# Altium integrated library TI Power Management LDO Single Channel(400-7500mA).IntLib: 1409 symbols (part 39 of 60)
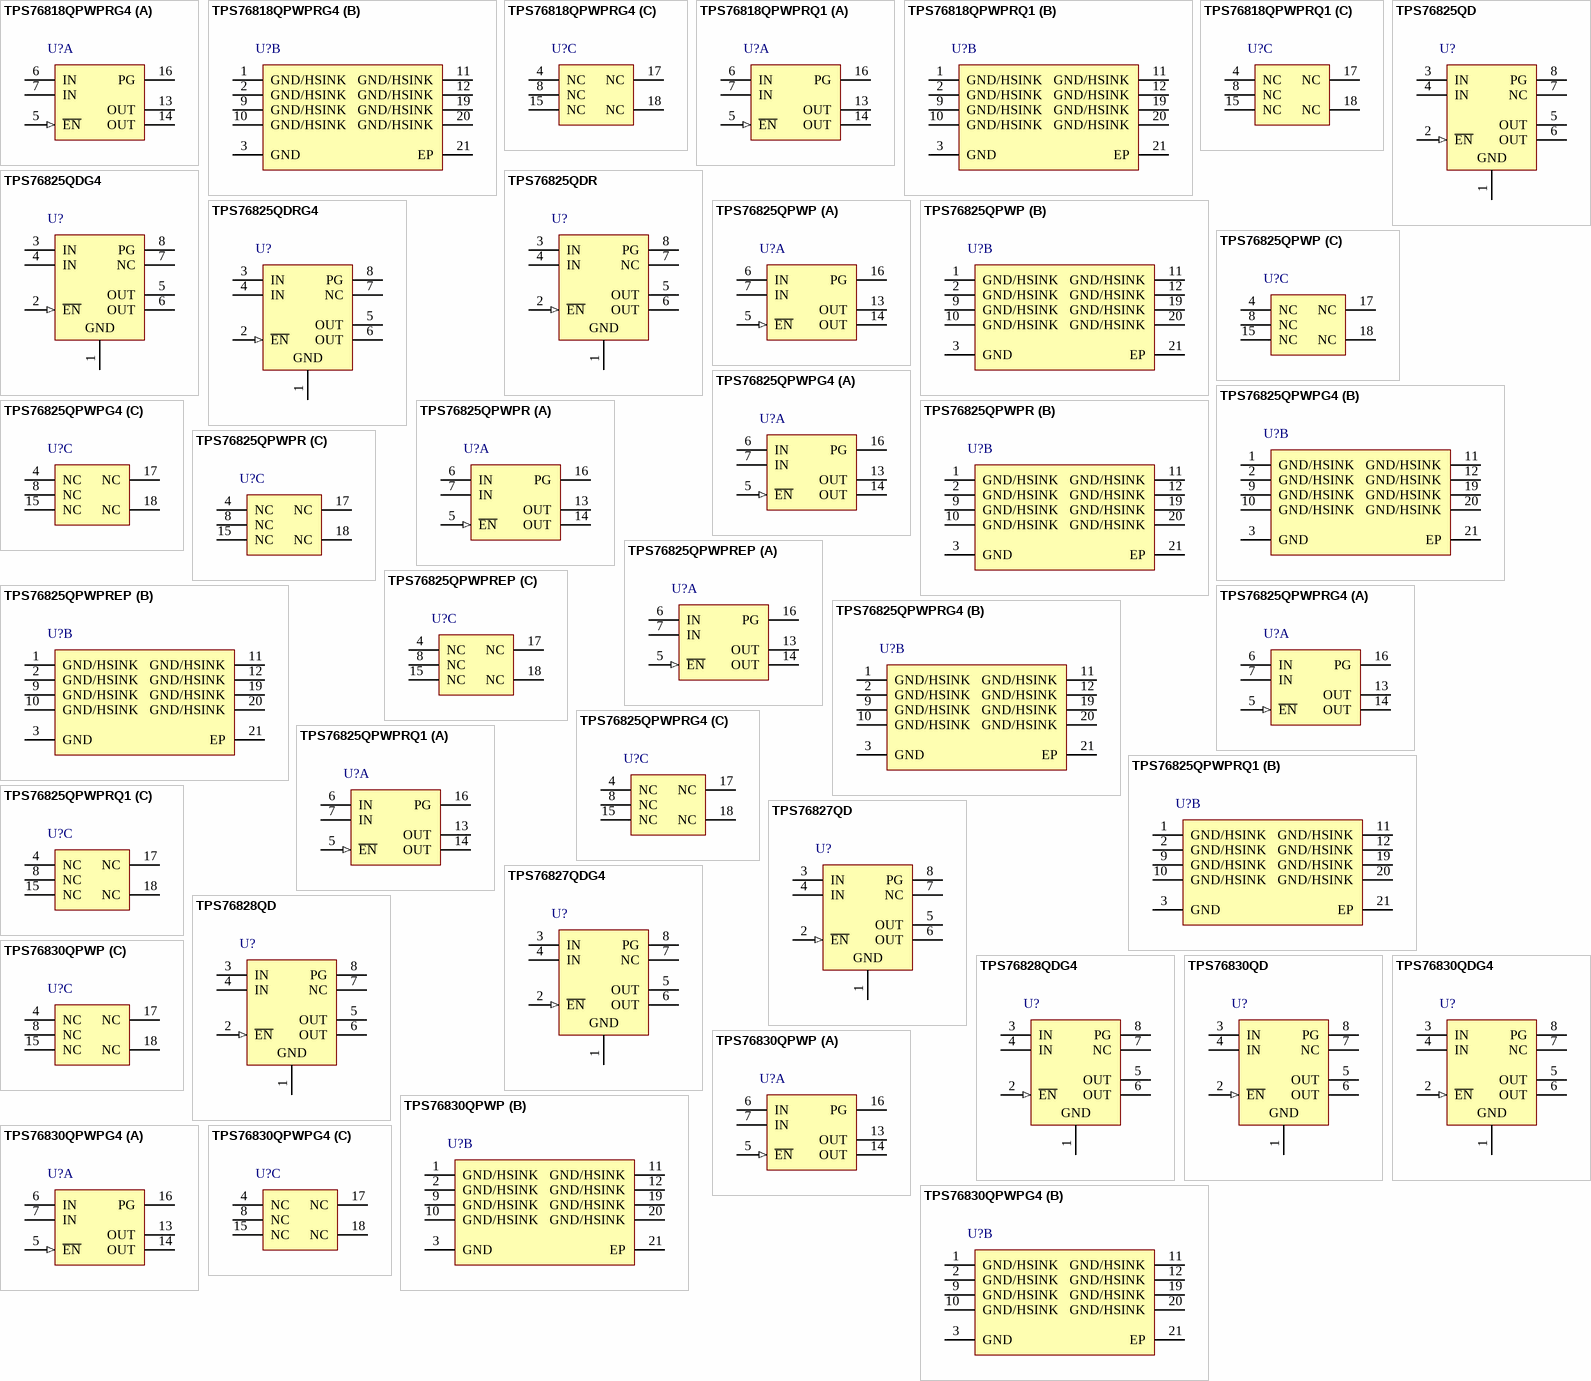
[diagram p88: symbols TPS76818QPWPRG4 to TPS76830QPWPG4]

## TPS76825QPWP
designator U?
Single Output Fast Transient Response LDO, 1 A, Fixed 2.5 V Output, 2.7 to 10 V Input, with Low IQ, 20-pin HTSSOP (PWP), -40 to 125 degC, Green (RoHS & no Sb/Br); Manufacturer: Texas Instruments; PartNumber: TPS76825QPWP; Accuracy(%): 2; Fixed Output Options(V): 2.5; Iout(Max)(A): 1; Iq(Typ)(mA): 0.08; Power Good: TRUE; SubFamily: Single Channel LDO; Vdo(Typ)(mV): 230; Vin(Max)(V): 10; Vin(Min)(V): 2.7; DatasheetVersion: SLVS211L; PackageVersion: 4073225-4/I; PackageReference: PWP20-2980X2000TP; PackageDescription: 20-Pin Plastic Small Outline, Body 4.4 x 6.5 mm, Pitch 0.65 mm; Supplier 1: Digi-Key; Supplier Part Number 1: 296-8088-5-ND; Supplier 2: Newark; Supplier Part Number 2: 77C1119; Supplier 3: Mouser; Supplier Part Number 3: 595-TPS76825QPWP; Eco-Plan: Green (RoHS & no Sb/Br); Vout Adj(Max)(V): 2.5; Vout Adj(Min)(V): 2.5; Mounting Technology: Surface Mount; Code_JEDEC: MO-153; ComponentLink1Description: Manufacturer URL; ComponentLink1URL: http://www.ti.com/; ComponentLink2Description: Datasheet; ComponentLink2URL: http://www.ti.com/general/docs/lit/getliterature.tsp?genericPartNumber=TPS76825&fileType=pdf; ComponentLink3Description: Package Specification; ComponentLink3URL: http://www.ti.com/litv/pdf/mhts001g
footprint TI-PWP20-2980X2000TP_N (SOP, 20-Leads, Body 6.5x4.4mm, Pitch 0.65mm, Thermal Pad 2.975x2 mm, IPC Medium Density)
footprint TI-PWP20-2980X2000TP_L (SOP, 20-Leads, Body 6.5x4.4mm, Pitch 0.65mm, Thermal Pad 2.975x2 mm, IPC High Density)
footprint TI-PWP20-2980X2000TP_M (SOP, 20-Leads, Body 6.5x4.4mm, Pitch 0.65mm, Thermal Pad 2.975x2 mm, IPC Low Density)
part A pins: 5 ~{EN} (in) "Enable input", 6 IN (power) "Input voltage", 7 IN (power) "Input voltage", 13 OUT (power) "Regulated output voltage", 14 OUT (power) "Regulated output voltage", 16 PG (hiz) "PG output"
part B pins: 1 GND/HSINK (power) "Ground/heatsink", 2 GND/HSINK (power) "Ground/heatsink", 3 GND (power) "Regulator ground", 9 GND/HSINK (power) "Ground/heatsink", 10 GND/HSINK (power) "Ground/heatsink", 11 GND/HSINK (power) "Ground/heatsink", 12 GND/HSINK (power) "Ground/heatsink", 19 GND/HSINK (power) "Ground/heatsink", 20 GND/HSINK (power) "Ground/heatsink", 21 EP "Exposed Thermal Pad"
part C pins: 4 NC "No connect", 8 NC "No connect", 15 NC "No connect", 17 NC "No connect", 18 NC "No connect"

## TPS76825QPWPG4
designator U?
Single Output Fast Transient Response LDO, 1 A, Fixed 2.5 V Output, 2.7 to 10 V Input, with Low IQ, 20-pin HTSSOP (PWP), -40 to 125 degC, Green (RoHS & no Sb/Br); Manufacturer: Texas Instruments; PartNumber: TPS76825QPWPG4; Accuracy(%): 2; Fixed Output Options(V): 2.5; Iout(Max)(A): 1; Iq(Typ)(mA): 0.08; Power Good: TRUE; SubFamily: Single Channel LDO; Vdo(Typ)(mV): 230; Vin(Max)(V): 10; Vin(Min)(V): 2.7; DatasheetVersion: SLVS211L; PackageVersion: 4073225-4/I; PackageReference: PWP20-2980X2000TP; PackageDescription: 20-Pin Plastic Small Outline, Body 4.4 x 6.5 mm, Pitch 0.65 mm; Supplier 1: Digi-Key; Supplier Part Number 1: TPS76825QPWPG4-ND; Supplier 2: Mouser; Supplier Part Number 2: 595-TPS76825QPWPG4; Eco-Plan: Green (RoHS & no Sb/Br); Vout Adj(Max)(V): 2.5; Vout Adj(Min)(V): 2.5; Mounting Technology: Surface Mount; Code_JEDEC: MO-153; ComponentLink1Description: Manufacturer URL; ComponentLink1URL: http://www.ti.com/; ComponentLink2Description: Datasheet; ComponentLink2URL: http://www.ti.com/general/docs/lit/getliterature.tsp?genericPartNumber=TPS76825&fileType=pdf; ComponentLink3Description: Package Specification; ComponentLink3URL: http://www.ti.com/litv/pdf/mhts001g
footprint TI-PWP20-2980X2000TP_N (SOP, 20-Leads, Body 6.5x4.4mm, Pitch 0.65mm, Thermal Pad 2.975x2 mm, IPC Medium Density)
footprint TI-PWP20-2980X2000TP_L (SOP, 20-Leads, Body 6.5x4.4mm, Pitch 0.65mm, Thermal Pad 2.975x2 mm, IPC High Density)
footprint TI-PWP20-2980X2000TP_M (SOP, 20-Leads, Body 6.5x4.4mm, Pitch 0.65mm, Thermal Pad 2.975x2 mm, IPC Low Density)
part A pins: 5 ~{EN} (in) "Enable input", 6 IN (power) "Input voltage", 7 IN (power) "Input voltage", 13 OUT (power) "Regulated output voltage", 14 OUT (power) "Regulated output voltage", 16 PG (hiz) "PG output"
part B pins: 1 GND/HSINK (power) "Ground/heatsink", 2 GND/HSINK (power) "Ground/heatsink", 3 GND (power) "Regulator ground", 9 GND/HSINK (power) "Ground/heatsink", 10 GND/HSINK (power) "Ground/heatsink", 11 GND/HSINK (power) "Ground/heatsink", 12 GND/HSINK (power) "Ground/heatsink", 19 GND/HSINK (power) "Ground/heatsink", 20 GND/HSINK (power) "Ground/heatsink", 21 EP "Exposed Thermal Pad"
part C pins: 4 NC "No connect", 8 NC "No connect", 15 NC "No connect", 17 NC "No connect", 18 NC "No connect"

## TPS76825QPWPR
designator U?
Single Output Fast Transient Response LDO, 1 A, Fixed 2.5 V Output, 2.7 to 10 V Input, with Low IQ, 20-pin HTSSOP (PWP), -40 to 125 degC, Green (RoHS & no Sb/Br); Manufacturer: Texas Instruments; PartNumber: TPS76825QPWPR; Accuracy(%): 2; Fixed Output Options(V): 2.5; Iout(Max)(A): 1; Iq(Typ)(mA): 0.08; Power Good: TRUE; SubFamily: Single Channel LDO; Vdo(Typ)(mV): 230; Vin(Max)(V): 10; Vin(Min)(V): 2.7; DatasheetVersion: SLVS211L; PackageVersion: 4073225-4/I; PackageReference: PWP20-2980X2000TP; PackageDescription: 20-Pin Plastic Small Outline, Body 4.4 x 6.5 mm, Pitch 0.65 mm; Supplier 1: Digi-Key; Supplier Part Number 1: TPS76825QPWPR-ND; Supplier 2: Mouser; Supplier Part Number 2: 595-TPS76825QPWPR; Eco-Plan: Green (RoHS & no Sb/Br); Vout Adj(Max)(V): 2.5; Vout Adj(Min)(V): 2.5; Mounting Technology: Surface Mount; Code_JEDEC: MO-153; ComponentLink1Description: Manufacturer URL; ComponentLink1URL: http://www.ti.com/; ComponentLink2Description: Datasheet; ComponentLink2URL: http://www.ti.com/general/docs/lit/getliterature.tsp?genericPartNumber=TPS76825&fileType=pdf; ComponentLink3Description: Package Specification; ComponentLink3URL: http://www.ti.com/litv/pdf/mhts001g
footprint TI-PWP20-2980X2000TP_N (SOP, 20-Leads, Body 6.5x4.4mm, Pitch 0.65mm, Thermal Pad 2.975x2 mm, IPC Medium Density)
footprint TI-PWP20-2980X2000TP_L (SOP, 20-Leads, Body 6.5x4.4mm, Pitch 0.65mm, Thermal Pad 2.975x2 mm, IPC High Density)
footprint TI-PWP20-2980X2000TP_M (SOP, 20-Leads, Body 6.5x4.4mm, Pitch 0.65mm, Thermal Pad 2.975x2 mm, IPC Low Density)
part A pins: 5 ~{EN} (in) "Enable input", 6 IN (power) "Input voltage", 7 IN (power) "Input voltage", 13 OUT (power) "Regulated output voltage", 14 OUT (power) "Regulated output voltage", 16 PG (hiz) "PG output"
part B pins: 1 GND/HSINK (power) "Ground/heatsink", 2 GND/HSINK (power) "Ground/heatsink", 3 GND (power) "Regulator ground", 9 GND/HSINK (power) "Ground/heatsink", 10 GND/HSINK (power) "Ground/heatsink", 11 GND/HSINK (power) "Ground/heatsink", 12 GND/HSINK (power) "Ground/heatsink", 19 GND/HSINK (power) "Ground/heatsink", 20 GND/HSINK (power) "Ground/heatsink", 21 EP "Exposed Thermal Pad"
part C pins: 4 NC "No connect", 8 NC "No connect", 15 NC "No connect", 17 NC "No connect", 18 NC "No connect"

## TPS76825QPWPREP
designator U?
Single Output Fast Transient Response LDO, 1 A, Fixed 2.5 V Output, 2.7 to 10 V Input, 20-pin HTSSOP (PWP), -40 to 125 degC, Green (RoHS & no Sb/Br); Manufacturer: Texas Instruments; PartNumber: TPS76825QPWPREP; Accuracy(%): 2; Fixed Output Options(V): 2.5; Iout(Max)(A): 1; Iq(Typ)(mA): 0.08; Power Good: TRUE; SubFamily: Single Channel LDO; Vdo(Typ)(mV): 230; Vin(Max)(V): 10; Vin(Min)(V): 2.7; DatasheetVersion: SGLS011B; PackageVersion: 4073225-4/I; PackageReference: PWP20-2980X2000TP; PackageDescription: 20-Pin Plastic Small Outline, Body 4.4 x 6.5 mm, Pitch 0.65 mm; Supplier 1: Digi-Key; Supplier Part Number 1: 296-18161-2-ND; Supplier 2: Digi-Key; Supplier Part Number 2: 296-18161-1-ND; Supplier 3: Digi-Key; Supplier Part Number 3: 296-18161-6-ND; Supplier 4: Newark; Supplier Part Number 4: 46M1184; Supplier 5: Mouser; Supplier Part Number 5: 595-TPS76825QPWPREP; Eco-Plan: Green (RoHS & no Sb/Br); Vout Adj(Max)(V): 2.5; Vout Adj(Min)(V): 2.5; Mounting Technology: Surface Mount; Code_JEDEC: MO-153; ComponentLink1Description: Manufacturer URL; ComponentLink1URL: http://www.ti.com/; ComponentLink2Description: Datasheet; ComponentLink2URL: http://www.ti.com/general/docs/lit/getliterature.tsp?genericPartNumber=TPS76825-EP&fileType=pdf; ComponentLink3Description: Package Specification; ComponentLink3URL: http://www.ti.com/litv/pdf/mhts001g
footprint TI-PWP20-2980X2000TP_N (SOP, 20-Leads, Body 6.5x4.4mm, Pitch 0.65mm, Thermal Pad 2.975x2 mm, IPC Medium Density)
footprint TI-PWP20-2980X2000TP_L (SOP, 20-Leads, Body 6.5x4.4mm, Pitch 0.65mm, Thermal Pad 2.975x2 mm, IPC High Density)
footprint TI-PWP20-2980X2000TP_M (SOP, 20-Leads, Body 6.5x4.4mm, Pitch 0.65mm, Thermal Pad 2.975x2 mm, IPC Low Density)
part A pins: 5 ~{EN} (in) "Enable input", 6 IN (power) "Input voltage", 7 IN (power) "Input voltage", 13 OUT (power) "Regulated output voltage", 14 OUT (power) "Regulated output voltage", 16 PG (hiz) "PG output"
part B pins: 1 GND/HSINK (power) "Ground/heatsink", 2 GND/HSINK (power) "Ground/heatsink", 3 GND (power) "Regulator ground", 9 GND/HSINK (power) "Ground/heatsink", 10 GND/HSINK (power) "Ground/heatsink", 11 GND/HSINK (power) "Ground/heatsink", 12 GND/HSINK (power) "Ground/heatsink", 19 GND/HSINK (power) "Ground/heatsink", 20 GND/HSINK (power) "Ground/heatsink", 21 EP "Exposed Thermal Pad"
part C pins: 4 NC "No connect", 8 NC "No connect", 15 NC "No connect", 17 NC "No connect", 18 NC "No connect"

## TPS76825QPWPRG4
designator U?
Single Output Fast Transient Response LDO, 1 A, Fixed 2.5 V Output, 2.7 to 10 V Input, with Low IQ, 20-pin HTSSOP (PWP), -40 to 125 degC, Green (RoHS & no Sb/Br); Manufacturer: Texas Instruments; PartNumber: TPS76825QPWPRG4; Accuracy(%): 2; Fixed Output Options(V): 2.5; Iout(Max)(A): 1; Iq(Typ)(mA): 0.08; Power Good: TRUE; SubFamily: Single Channel LDO; Vdo(Typ)(mV): 230; Vin(Max)(V): 10; Vin(Min)(V): 2.7; DatasheetVersion: SLVS211L; PackageVersion: 4073225-4/I; PackageReference: PWP20-2980X2000TP; PackageDescription: 20-Pin Plastic Small Outline, Body 4.4 x 6.5 mm, Pitch 0.65 mm; Supplier 1: Digi-Key; Supplier Part Number 1: TPS76825QPWPRG4-ND; Supplier 2: Mouser; Supplier Part Number 2: 595-TPS76825QPWPRG4; Eco-Plan: Green (RoHS & no Sb/Br); Vout Adj(Max)(V): 2.5; Vout Adj(Min)(V): 2.5; Mounting Technology: Surface Mount; Code_JEDEC: MO-153; ComponentLink1Description: Manufacturer URL; ComponentLink1URL: http://www.ti.com/; ComponentLink2Description: Datasheet; ComponentLink2URL: http://www.ti.com/general/docs/lit/getliterature.tsp?genericPartNumber=TPS76825&fileType=pdf; ComponentLink3Description: Package Specification; ComponentLink3URL: http://www.ti.com/litv/pdf/mhts001g
footprint TI-PWP20-2980X2000TP_N (SOP, 20-Leads, Body 6.5x4.4mm, Pitch 0.65mm, Thermal Pad 2.975x2 mm, IPC Medium Density)
footprint TI-PWP20-2980X2000TP_L (SOP, 20-Leads, Body 6.5x4.4mm, Pitch 0.65mm, Thermal Pad 2.975x2 mm, IPC High Density)
footprint TI-PWP20-2980X2000TP_M (SOP, 20-Leads, Body 6.5x4.4mm, Pitch 0.65mm, Thermal Pad 2.975x2 mm, IPC Low Density)
part A pins: 5 ~{EN} (in) "Enable input", 6 IN (power) "Input voltage", 7 IN (power) "Input voltage", 13 OUT (power) "Regulated output voltage", 14 OUT (power) "Regulated output voltage", 16 PG (hiz) "PG output"
part B pins: 1 GND/HSINK (power) "Ground/heatsink", 2 GND/HSINK (power) "Ground/heatsink", 3 GND (power) "Regulator ground", 9 GND/HSINK (power) "Ground/heatsink", 10 GND/HSINK (power) "Ground/heatsink", 11 GND/HSINK (power) "Ground/heatsink", 12 GND/HSINK (power) "Ground/heatsink", 19 GND/HSINK (power) "Ground/heatsink", 20 GND/HSINK (power) "Ground/heatsink", 21 EP "Exposed Thermal Pad"
part C pins: 4 NC "No connect", 8 NC "No connect", 15 NC "No connect", 17 NC "No connect", 18 NC "No connect"

## TPS76825QPWPRQ1
designator U?
Single Output Automotive LDO, 1 A, Fixed 2.5 V Output, 2.7 to 10 V Input, 20-pin HTSSOP (PWP), -40 to 125 degC, Green (RoHS & no Sb/Br); Manufacturer: Texas Instruments; PartNumber: TPS76825QPWPRQ1; Accuracy(%): 2; Fixed Output Options(V): 2.5; Iout(Max)(A): 1; Iq(Typ)(mA): 0.08; Power Good: TRUE; SubFamily: Single Channel LDO; Vdo(Typ)(mV): 230; Vin(Max)(V): 10; Vin(Min)(V): 2.7; DatasheetVersion: SGLS155A; PackageVersion: 4073225-4/I; PackageReference: PWP20-2980X2000TP; PackageDescription: 20-Pin Plastic Small Outline, Body 4.4 x 6.5 mm, Pitch 0.65 mm; Supplier 1: Digi-Key; Supplier Part Number 1: 296-29557-2-ND; Supplier 2: Digi-Key; Supplier Part Number 2: 296-29557-1-ND; Supplier 3: Digi-Key; Supplier Part Number 3: 296-29557-6-ND; Supplier 4: Mouser; Supplier Part Number 4: 595-TPS76825QPWPRQ1; Eco-Plan: Green (RoHS & no Sb/Br); Vout Adj(Max)(V): 2.5; Vout Adj(Min)(V): 2.5; Mounting Technology: Surface Mount; Code_JEDEC: MO-153; ComponentLink1Description: Manufacturer URL; ComponentLink1URL: http://www.ti.com/; ComponentLink2Description: Datasheet; ComponentLink2URL: http://www.ti.com/general/docs/lit/getliterature.tsp?genericPartNumber=TPS76825-Q1&fileType=pdf; ComponentLink3Description: Package Specification; ComponentLink3URL: http://www.ti.com/litv/pdf/mhts001g
footprint TI-PWP20-2980X2000TP_N (SOP, 20-Leads, Body 6.5x4.4mm, Pitch 0.65mm, Thermal Pad 2.975x2 mm, IPC Medium Density)
footprint TI-PWP20-2980X2000TP_L (SOP, 20-Leads, Body 6.5x4.4mm, Pitch 0.65mm, Thermal Pad 2.975x2 mm, IPC High Density)
footprint TI-PWP20-2980X2000TP_M (SOP, 20-Leads, Body 6.5x4.4mm, Pitch 0.65mm, Thermal Pad 2.975x2 mm, IPC Low Density)
part A pins: 5 ~{EN} (in) "Enable input", 6 IN (power) "Input voltage", 7 IN (power) "Input voltage", 13 OUT (power) "Regulated output voltage", 14 OUT (power) "Regulated output voltage", 16 PG (hiz) "PG output"
part B pins: 1 GND/HSINK (power) "Ground/heatsink", 2 GND/HSINK (power) "Ground/heatsink", 3 GND (power) "Regulator ground", 9 GND/HSINK (power) "Ground/heatsink", 10 GND/HSINK (power) "Ground/heatsink", 11 GND/HSINK (power) "Ground/heatsink", 12 GND/HSINK (power) "Ground/heatsink", 19 GND/HSINK (power) "Ground/heatsink", 20 GND/HSINK (power) "Ground/heatsink", 21 EP "Exposed Thermal Pad"
part C pins: 4 NC "No connect", 8 NC "No connect", 15 NC "No connect", 17 NC "No connect", 18 NC "No connect"

## TPS76827QD
designator U?
Single Output Fast Transient Response LDO, 1 A, Fixed 2.7 V Output, 2.7 to 10 V Input, with Low IQ, 8-pin SOIC (D), -40 to 125 degC, Green (RoHS & no Sb/Br); Manufacturer: Texas Instruments; PartNumber: TPS76827QD; Accuracy(%): 2; Fixed Output Options(V): 2.7; Iout(Max)(A): 1; Iq(Typ)(mA): 0.08; Power Good: TRUE; SubFamily: Single Channel LDO; Vdo(Typ)(mV): 230; Vin(Max)(V): 10; DatasheetVersion: SLVS211L; PackageVersion: 4040047-3/M; PackageReference: D8; PackageDescription: 8-Pin Plastic Small Outline, Body 4.9 x 3.9 mm, Pitch 1.27 mm; Supplier 1: Digi-Key; Supplier Part Number 1: 296-2747-5-ND; Supplier 2: Mouser; Supplier Part Number 2: 595-TPS76827QD; Eco-Plan: Green (RoHS & no Sb/Br); Vin(Min)(V): 2.7; Vout Adj(Max)(V): 2.7; Vout Adj(Min)(V): 2.7; Mounting Technology: Surface Mount; Code_JEDEC: MS-012; ComponentLink1Description: Manufacturer URL; ComponentLink1URL: http://www.ti.com/; ComponentLink2Description: Datasheet; ComponentLink2URL: http://www.ti.com/general/docs/lit/getliterature.tsp?genericPartNumber=TPS76827&fileType=pdf; ComponentLink3Description: Package Specification; ComponentLink3URL: http://www.ti.com/litv/pdf/msoi002j
footprint TI-D8_N (SOIC, 8-Leads, Body 4.9x3.9mm, Pitch 1.27mm, IPC Medium Density)
footprint TI-D8_L (SOIC, 8-Leads, Body 4.9x3.9mm, Pitch 1.27mm, IPC High Density)
footprint TI-D8_M (SOIC, 8-Leads, Body 4.9x3.9mm, Pitch 1.27mm, IPC Low Density)
pins: 1 GND (power) "Ground", 2 ~{EN} (in) "Negative polarity enable (E\N\) input", 3 IN (power) "Input voltage", 4 IN (power) "Input voltage", 5 OUT (power) "Regulated output voltage", 6 OUT (power) "Regulated output voltage", 7 NC "No internal connection", 8 PG (hiz) "Open-drain power-good (PG) output."

## TPS76827QDG4
designator U?
Single Output Fast Transient Response LDO, 1 A, Fixed 2.7 V Output, 2.7 to 10 V Input, with Low IQ, 8-pin SOIC (D), -40 to 125 degC, Green (RoHS & no Sb/Br); Manufacturer: Texas Instruments; PartNumber: TPS76827QDG4; Accuracy(%): 2; Fixed Output Options(V): 2.7; Iout(Max)(A): 1; Iq(Typ)(mA): 0.08; Power Good: TRUE; SubFamily: Single Channel LDO; Vdo(Typ)(mV): 230; Vin(Max)(V): 10; DatasheetVersion: SLVS211L; PackageVersion: 4040047-3/M; PackageReference: D8; PackageDescription: 8-Pin Plastic Small Outline, Body 4.9 x 3.9 mm, Pitch 1.27 mm; Supplier 1: Digi-Key; Supplier Part Number 1: TPS76827QDG4-ND; Supplier 2: Mouser; Supplier Part Number 2: 595-TPS76827QDG4; Eco-Plan: Green (RoHS & no Sb/Br); Vin(Min)(V): 2.7; Vout Adj(Max)(V): 2.7; Vout Adj(Min)(V): 2.7; Mounting Technology: Surface Mount; Code_JEDEC: MS-012; ComponentLink1Description: Manufacturer URL; ComponentLink1URL: http://www.ti.com/; ComponentLink2Description: Datasheet; ComponentLink2URL: http://www.ti.com/general/docs/lit/getliterature.tsp?genericPartNumber=TPS76827&fileType=pdf; ComponentLink3Description: Package Specification; ComponentLink3URL: http://www.ti.com/litv/pdf/msoi002j
footprint TI-D8_N (SOIC, 8-Leads, Body 4.9x3.9mm, Pitch 1.27mm, IPC Medium Density)
footprint TI-D8_L (SOIC, 8-Leads, Body 4.9x3.9mm, Pitch 1.27mm, IPC High Density)
footprint TI-D8_M (SOIC, 8-Leads, Body 4.9x3.9mm, Pitch 1.27mm, IPC Low Density)
pins: 1 GND (power) "Ground", 2 ~{EN} (in) "Negative polarity enable (E\N\) input", 3 IN (power) "Input voltage", 4 IN (power) "Input voltage", 5 OUT (power) "Regulated output voltage", 6 OUT (power) "Regulated output voltage", 7 NC "No internal connection", 8 PG (hiz) "Open-drain power-good (PG) output."

## TPS76828QD
designator U?
Single Output Fast Transient Response LDO, 1 A, Fixed 2.8 V Output, 2.7 to 10 V Input, with Low IQ, 8-pin SOIC (D), -40 to 125 degC, Green (RoHS & no Sb/Br); Manufacturer: Texas Instruments; PartNumber: TPS76828QD; Accuracy(%): 2; Fixed Output Options(V): 2.8; Iout(Max)(A): 1; Iq(Typ)(mA): 0.08; Power Good: TRUE; Rating: Catalog; SubFamily: Single Channel LDO; Vdo(Typ)(mV): 500; Vin(Max)(V): 10; Vin(Min)(V): 2.7; DatasheetVersion: SLVS211L; PackageVersion: 4040047-3/M; PackageReference: D8; PackageDescription: 8-Pin Plastic Small Outline, Body 4.9 x 3.9 mm, Pitch 1.27 mm; Supplier 1: Digi-Key; Supplier Part Number 1: 296-2748-5-ND; Supplier 2: Mouser; Supplier Part Number 2: 595-TPS76828QD; Eco-Plan: Green (RoHS & no Sb/Br); Vout Adj(Max)(V): 2.8; Vout Adj(Min)(V): 2.8; Mounting Technology: Surface Mount; Code_JEDEC: MS-012; ComponentLink1Description: Manufacturer URL; ComponentLink1URL: http://www.ti.com/; ComponentLink2Description: Datasheet; ComponentLink2URL: http://www.ti.com/general/docs/lit/getliterature.tsp?genericPartNumber=TPS76828&fileType=pdf; ComponentLink3Description: Package Specification; ComponentLink3URL: http://www.ti.com/litv/pdf/msoi002j; ComponentLink4Description: URL Link1; ComponentLink4URL: Samples URL:http://www.ti.com/product/tps76828#samples
footprint TI-D8_N (SOIC, 8-Leads, Body 4.9x3.9mm, Pitch 1.27mm, IPC Medium Density)
footprint TI-D8_L (SOIC, 8-Leads, Body 4.9x3.9mm, Pitch 1.27mm, IPC High Density)
footprint TI-D8_M (SOIC, 8-Leads, Body 4.9x3.9mm, Pitch 1.27mm, IPC Low Density)
pins: 1 GND (power) "Ground", 2 ~{EN} (in) "Negative polarity enable (E\N\) input", 3 IN (power) "Input voltage", 4 IN (power) "Input voltage", 5 OUT (power) "Regulated output voltage", 6 OUT (power) "Regulated output voltage", 7 NC "No internal connection", 8 PG (hiz) "Open-drain power-good (PG) output."

## TPS76828QDG4
designator U?
Single Output Fast Transient Response LDO, 1 A, Fixed 2.8 V Output, 2.7 to 10 V Input, with Low IQ, 8-pin SOIC (D), -40 to 125 degC, Green (RoHS & no Sb/Br); Manufacturer: Texas Instruments; PartNumber: TPS76828QDG4; Accuracy(%): 2; Fixed Output Options(V): 2.8; Iout(Max)(A): 1; Iq(Typ)(mA): 0.08; Power Good: TRUE; Rating: Catalog; SubFamily: Single Channel LDO; Vdo(Typ)(mV): 500; Vin(Max)(V): 10; Vin(Min)(V): 2.7; DatasheetVersion: SLVS211L; PackageVersion: 4040047-3/M; PackageReference: D8; PackageDescription: 8-Pin Plastic Small Outline, Body 4.9 x 3.9 mm, Pitch 1.27 mm; Supplier 1: Digi-Key; Supplier Part Number 1: TPS76828QDG4-ND; Supplier 2: Mouser; Supplier Part Number 2: 595-TPS76828QDG4; Eco-Plan: Green (RoHS & no Sb/Br); Vout Adj(Max)(V): 2.8; Vout Adj(Min)(V): 2.8; Mounting Technology: Surface Mount; Code_JEDEC: MS-012; ComponentLink1Description: Manufacturer URL; ComponentLink1URL: http://www.ti.com/; ComponentLink2Description: Datasheet; ComponentLink2URL: http://www.ti.com/general/docs/lit/getliterature.tsp?genericPartNumber=TPS76828&fileType=pdf; ComponentLink3Description: Package Specification; ComponentLink3URL: http://www.ti.com/litv/pdf/msoi002j; ComponentLink4Description: URL Link1; ComponentLink4URL: Samples URL:http://www.ti.com/product/tps76828#samples
footprint TI-D8_N (SOIC, 8-Leads, Body 4.9x3.9mm, Pitch 1.27mm, IPC Medium Density)
footprint TI-D8_L (SOIC, 8-Leads, Body 4.9x3.9mm, Pitch 1.27mm, IPC High Density)
footprint TI-D8_M (SOIC, 8-Leads, Body 4.9x3.9mm, Pitch 1.27mm, IPC Low Density)
pins: 1 GND (power) "Ground", 2 ~{EN} (in) "Negative polarity enable (E\N\) input", 3 IN (power) "Input voltage", 4 IN (power) "Input voltage", 5 OUT (power) "Regulated output voltage", 6 OUT (power) "Regulated output voltage", 7 NC "No internal connection", 8 PG (hiz) "Open-drain power-good (PG) output."

## TPS76830QD
designator U?
Single Output Fast Transient Response LDO, 1 A, Fixed 3 V Output, 2.7 to 10 V Input, with Low IQ, 8-pin SOIC (D), -40 to 125 degC, Green (RoHS & no Sb/Br); Manufacturer: Texas Instruments; PartNumber: TPS76830QD; Accuracy(%): 2; Fixed Output Options(V): 3; Iout(Max)(A): 1; Iq(Typ)(mA): 0.08; Power Good: TRUE; SubFamily: Single Channel LDO; Vdo(Typ)(mV): 450; Vin(Max)(V): 10; Vin(Min)(V): 2.7; DatasheetVersion: SLVS211L; PackageVersion: 4040047-3/M; PackageReference: D8; PackageDescription: 8-Pin Plastic Small Outline, Body 4.9 x 3.9 mm, Pitch 1.27 mm; Supplier 1: Digi-Key; Supplier Part Number 1: 296-2749-5-ND; Supplier 2: Newark; Supplier Part Number 2: 77C1129; Supplier 3: Mouser; Supplier Part Number 3: 595-TPS76830QD; Eco-Plan: Green (RoHS & no Sb/Br); Vout Adj(Max)(V): 3; Vout Adj(Min)(V): 3; Mounting Technology: Surface Mount; Code_JEDEC: MS-012; ComponentLink1Description: Manufacturer URL; ComponentLink1URL: http://www.ti.com/; ComponentLink2Description: Datasheet; ComponentLink2URL: http://www.ti.com/general/docs/lit/getliterature.tsp?genericPartNumber=TPS76830&fileType=pdf; ComponentLink3Description: Package Specification; ComponentLink3URL: http://www.ti.com/litv/pdf/msoi002j
footprint TI-D8_N (SOIC, 8-Leads, Body 4.9x3.9mm, Pitch 1.27mm, IPC Medium Density)
footprint TI-D8_L (SOIC, 8-Leads, Body 4.9x3.9mm, Pitch 1.27mm, IPC High Density)
footprint TI-D8_M (SOIC, 8-Leads, Body 4.9x3.9mm, Pitch 1.27mm, IPC Low Density)
pins: 1 GND (power) "Ground", 2 ~{EN} (in) "Negative polarity enable (E\N\) input", 3 IN (power) "Input voltage", 4 IN (power) "Input voltage", 5 OUT (power) "Regulated output voltage", 6 OUT (power) "Regulated output voltage", 7 NC "No internal connection", 8 PG (hiz) "Open-drain power-good (PG) output."

## TPS76830QDG4
designator U?
Single Output Fast Transient Response LDO, 1 A, Fixed 3 V Output, 2.7 to 10 V Input, with Low IQ, 8-pin SOIC (D), -40 to 125 degC, Green (RoHS & no Sb/Br); Manufacturer: Texas Instruments; PartNumber: TPS76830QDG4; Accuracy(%): 2; Fixed Output Options(V): 3; Iout(Max)(A): 1; Iq(Typ)(mA): 0.08; Power Good: TRUE; SubFamily: Single Channel LDO; Vdo(Typ)(mV): 450; Vin(Max)(V): 10; Vin(Min)(V): 2.7; DatasheetVersion: SLVS211L; PackageVersion: 4040047-3/M; PackageReference: D8; PackageDescription: 8-Pin Plastic Small Outline, Body 4.9 x 3.9 mm, Pitch 1.27 mm; Supplier 1: Digi-Key; Supplier Part Number 1: TPS76830QDG4-ND; Supplier 2: Mouser; Supplier Part Number 2: 595-TPS76830QDG4; Eco-Plan: Green (RoHS & no Sb/Br); Vout Adj(Max)(V): 3; Vout Adj(Min)(V): 3; Mounting Technology: Surface Mount; Code_JEDEC: MS-012; ComponentLink1Description: Manufacturer URL; ComponentLink1URL: http://www.ti.com/; ComponentLink2Description: Datasheet; ComponentLink2URL: http://www.ti.com/general/docs/lit/getliterature.tsp?genericPartNumber=TPS76830&fileType=pdf; ComponentLink3Description: Package Specification; ComponentLink3URL: http://www.ti.com/litv/pdf/msoi002j
footprint TI-D8_N (SOIC, 8-Leads, Body 4.9x3.9mm, Pitch 1.27mm, IPC Medium Density)
footprint TI-D8_L (SOIC, 8-Leads, Body 4.9x3.9mm, Pitch 1.27mm, IPC High Density)
footprint TI-D8_M (SOIC, 8-Leads, Body 4.9x3.9mm, Pitch 1.27mm, IPC Low Density)
pins: 1 GND (power) "Ground", 2 ~{EN} (in) "Negative polarity enable (E\N\) input", 3 IN (power) "Input voltage", 4 IN (power) "Input voltage", 5 OUT (power) "Regulated output voltage", 6 OUT (power) "Regulated output voltage", 7 NC "No internal connection", 8 PG (hiz) "Open-drain power-good (PG) output."

## TPS76830QPWP
designator U?
Single Output Fast Transient Response LDO, 1 A, Fixed 3 V Output, 2.7 to 10 V Input, with Low IQ, 20-pin HTSSOP (PWP), -40 to 125 degC, Green (RoHS & no Sb/Br); Manufacturer: Texas Instruments; PartNumber: TPS76830QPWP; Accuracy(%): 2; Fixed Output Options(V): 3; Iout(Max)(A): 1; Iq(Typ)(mA): 0.08; Power Good: TRUE; SubFamily: Single Channel LDO; Vdo(Typ)(mV): 450; Vin(Max)(V): 10; Vin(Min)(V): 2.7; DatasheetVersion: SLVS211L; PackageVersion: 4073225-4/I; PackageReference: PWP20-2980X2000TP; PackageDescription: 20-Pin Plastic Small Outline, Body 4.4 x 6.5 mm, Pitch 0.65 mm; Supplier 1: Digi-Key; Supplier Part Number 1: 296-8091-5-ND; Supplier 2: Mouser; Supplier Part Number 2: 595-TPS76830QPWP; Eco-Plan: Green (RoHS & no Sb/Br); Vout Adj(Max)(V): 3; Vout Adj(Min)(V): 3; Mounting Technology: Surface Mount; Code_JEDEC: MO-153; ComponentLink1Description: Manufacturer URL; ComponentLink1URL: http://www.ti.com/; ComponentLink2Description: Datasheet; ComponentLink2URL: http://www.ti.com/general/docs/lit/getliterature.tsp?genericPartNumber=TPS76830&fileType=pdf; ComponentLink3Description: Package Specification; ComponentLink3URL: http://www.ti.com/litv/pdf/mhts001g
footprint TI-PWP20-2980X2000TP_N (SOP, 20-Leads, Body 6.5x4.4mm, Pitch 0.65mm, Thermal Pad 2.975x2 mm, IPC Medium Density)
footprint TI-PWP20-2980X2000TP_L (SOP, 20-Leads, Body 6.5x4.4mm, Pitch 0.65mm, Thermal Pad 2.975x2 mm, IPC High Density)
footprint TI-PWP20-2980X2000TP_M (SOP, 20-Leads, Body 6.5x4.4mm, Pitch 0.65mm, Thermal Pad 2.975x2 mm, IPC Low Density)
part A pins: 5 ~{EN} (in) "Enable input", 6 IN (power) "Input voltage", 7 IN (power) "Input voltage", 13 OUT (power) "Regulated output voltage", 14 OUT (power) "Regulated output voltage", 16 PG (hiz) "PG output"
part B pins: 1 GND/HSINK (power) "Ground/heatsink", 2 GND/HSINK (power) "Ground/heatsink", 3 GND (power) "Regulator ground", 9 GND/HSINK (power) "Ground/heatsink", 10 GND/HSINK (power) "Ground/heatsink", 11 GND/HSINK (power) "Ground/heatsink", 12 GND/HSINK (power) "Ground/heatsink", 19 GND/HSINK (power) "Ground/heatsink", 20 GND/HSINK (power) "Ground/heatsink", 21 EP "Exposed Thermal Pad"
part C pins: 4 NC "No connect", 8 NC "No connect", 15 NC "No connect", 17 NC "No connect", 18 NC "No connect"

## TPS76830QPWPG4
designator U?
Single Output Fast Transient Response LDO, 1 A, Fixed 3 V Output, 2.7 to 10 V Input, with Low IQ, 20-pin HTSSOP (PWP), -40 to 125 degC, Green (RoHS & no Sb/Br); Manufacturer: Texas Instruments; PartNumber: TPS76830QPWPG4; Accuracy(%): 2; Fixed Output Options(V): 3; Iout(Max)(A): 1; Iq(Typ)(mA): 0.08; Power Good: TRUE; SubFamily: Single Channel LDO; Vdo(Typ)(mV): 450; Vin(Max)(V): 10; Vin(Min)(V): 2.7; DatasheetVersion: SLVS211L; PackageVersion: 4073225-4/I; PackageReference: PWP20-2980X2000TP; PackageDescription: 20-Pin Plastic Small Outline, Body 4.4 x 6.5 mm, Pitch 0.65 mm; Supplier 1: Digi-Key; Supplier Part Number 1: TPS76830QPWPG4-ND; Supplier 2: Mouser; Supplier Part Number 2: 595-TPS76830QPWPG4; Eco-Plan: Green (RoHS & no Sb/Br); Vout Adj(Max)(V): 3; Vout Adj(Min)(V): 3; Mounting Technology: Surface Mount; Code_JEDEC: MO-153; ComponentLink1Description: Manufacturer URL; ComponentLink1URL: http://www.ti.com/; ComponentLink2Description: Datasheet; ComponentLink2URL: http://www.ti.com/general/docs/lit/getliterature.tsp?genericPartNumber=TPS76830&fileType=pdf; ComponentLink3Description: Package Specification; ComponentLink3URL: http://www.ti.com/litv/pdf/mhts001g
footprint TI-PWP20-2980X2000TP_N (SOP, 20-Leads, Body 6.5x4.4mm, Pitch 0.65mm, Thermal Pad 2.975x2 mm, IPC Medium Density)
footprint TI-PWP20-2980X2000TP_L (SOP, 20-Leads, Body 6.5x4.4mm, Pitch 0.65mm, Thermal Pad 2.975x2 mm, IPC High Density)
footprint TI-PWP20-2980X2000TP_M (SOP, 20-Leads, Body 6.5x4.4mm, Pitch 0.65mm, Thermal Pad 2.975x2 mm, IPC Low Density)
part A pins: 5 ~{EN} (in) "Enable input", 6 IN (power) "Input voltage", 7 IN (power) "Input voltage", 13 OUT (power) "Regulated output voltage", 14 OUT (power) "Regulated output voltage", 16 PG (hiz) "PG output"
part B pins: 1 GND/HSINK (power) "Ground/heatsink", 2 GND/HSINK (power) "Ground/heatsink", 3 GND (power) "Regulator ground", 9 GND/HSINK (power) "Ground/heatsink", 10 GND/HSINK (power) "Ground/heatsink", 11 GND/HSINK (power) "Ground/heatsink", 12 GND/HSINK (power) "Ground/heatsink", 19 GND/HSINK (power) "Ground/heatsink", 20 GND/HSINK (power) "Ground/heatsink", 21 EP "Exposed Thermal Pad"
part C pins: 4 NC "No connect", 8 NC "No connect", 15 NC "No connect", 17 NC "No connect", 18 NC "No connect"

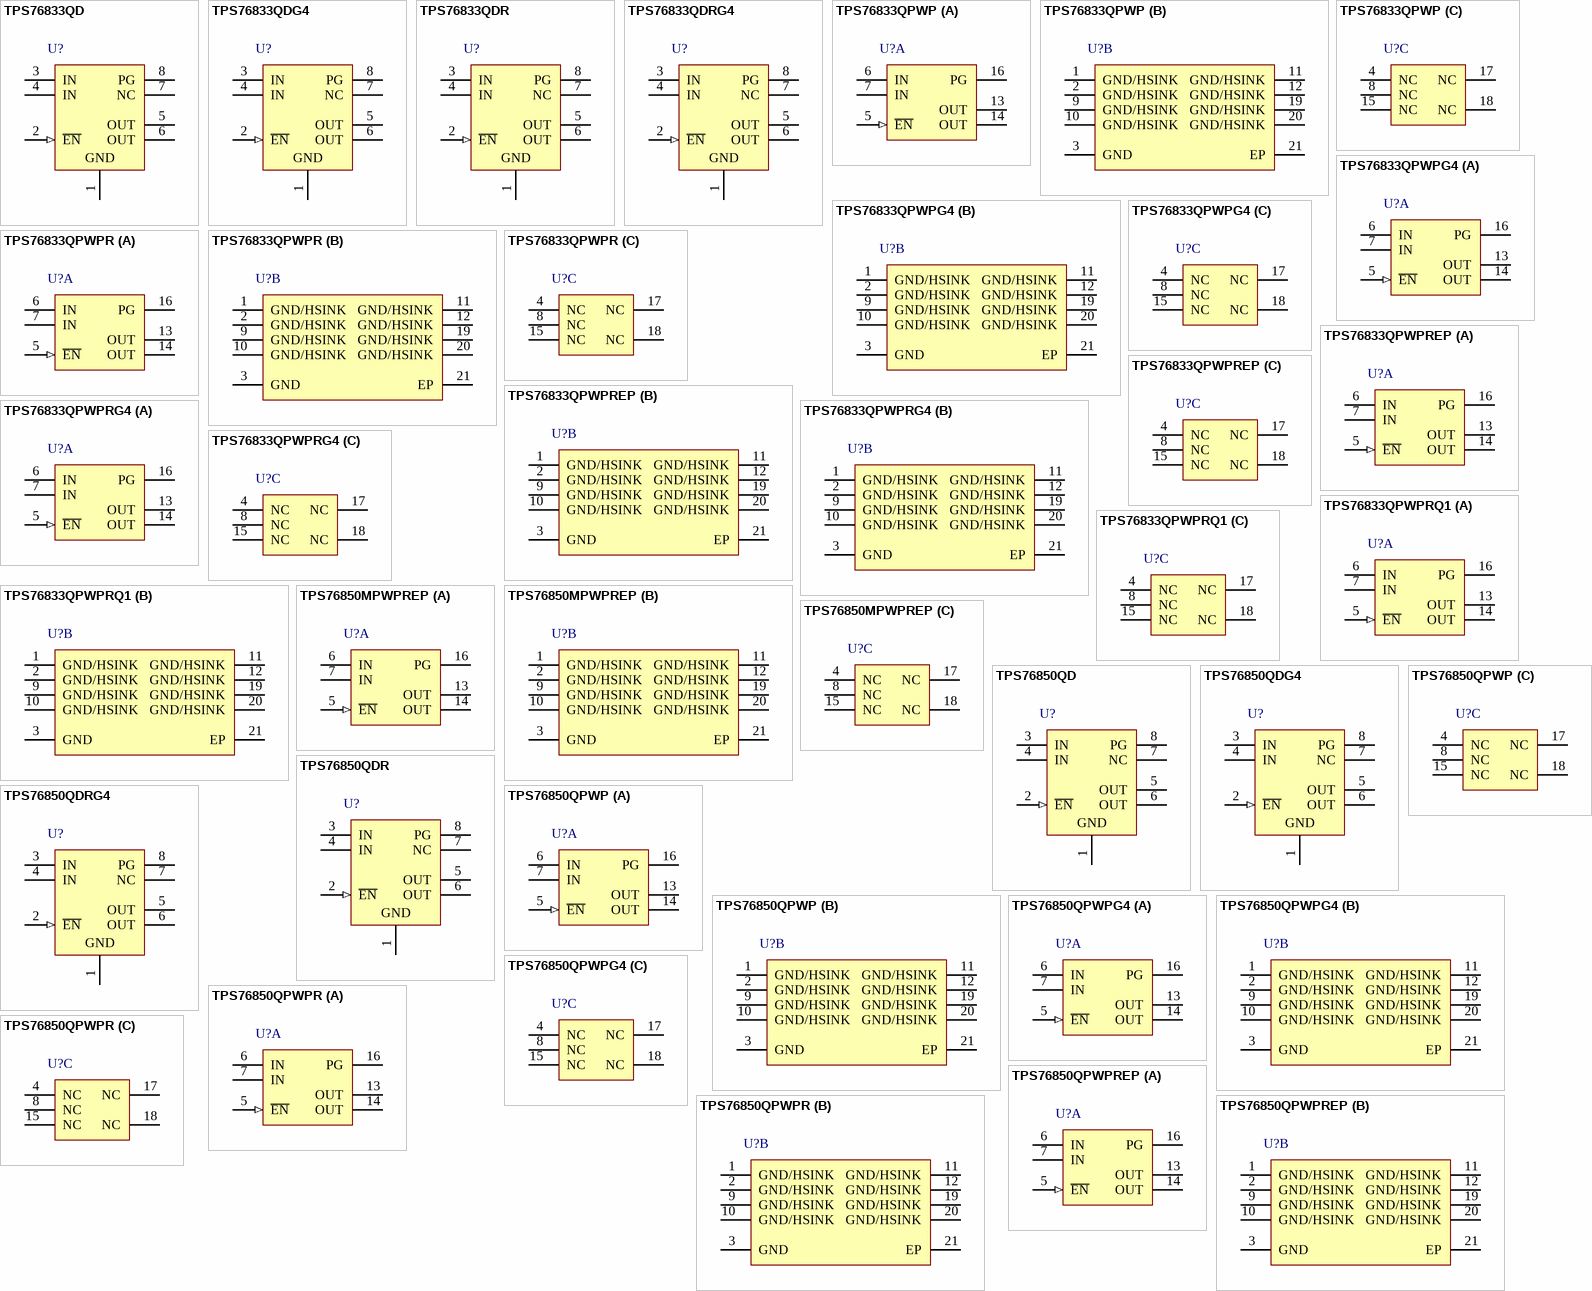
[diagram p33: symbols TPS76833QD to TPS76850QPWPREP]

## TPS76833QD
designator U?
Single Output Fast Transient Response LDO, 1 A, Fixed 3.3 V Output, 2.7 to 10 V Input, with Low IQ, 8-pin SOIC (D), -40 to 125 degC, Green (RoHS & no Sb/Br); Manufacturer: Texas Instruments; PartNumber: TPS76833QD; Accuracy(%): 2; Fixed Output Options(V): 3.3; Iout(Max)(A): 1; Iq(Typ)(mA): 0.08; Power Good: TRUE; SubFamily: Single Channel LDO; Vdo(Typ)(mV): 350; Vin(Max)(V): 10; Vin(Min)(V): 2.7; DatasheetVersion: SLVS211L; PackageVersion: 4040047-3/M; PackageReference: D8; PackageDescription: 8-Pin Plastic Small Outline, Body 4.9 x 3.9 mm, Pitch 1.27 mm; Supplier 1: Digi-Key; Supplier Part Number 1: 296-2750-5-ND; Supplier 2: Farnell; Supplier Part Number 2: 8461481; Supplier 3: Newark; Supplier Part Number 3: 77C1133; Supplier 4: Mouser; Supplier Part Number 4: 595-TPS76833QD; Eco-Plan: Green (RoHS & no Sb/Br); Vout Adj(Max)(V): 3.3; Vout Adj(Min)(V): 3.3; Mounting Technology: Surface Mount; Code_JEDEC: MS-012; ComponentLink1Description: Manufacturer URL; ComponentLink1URL: http://www.ti.com/; ComponentLink2Description: Datasheet; ComponentLink2URL: http://www.ti.com/general/docs/lit/getliterature.tsp?genericPartNumber=TPS76833&fileType=pdf; ComponentLink3Description: Package Specification; ComponentLink3URL: http://www.ti.com/litv/pdf/msoi002j
footprint TI-D8_N (SOIC, 8-Leads, Body 4.9x3.9mm, Pitch 1.27mm, IPC Medium Density)
footprint TI-D8_L (SOIC, 8-Leads, Body 4.9x3.9mm, Pitch 1.27mm, IPC High Density)
footprint TI-D8_M (SOIC, 8-Leads, Body 4.9x3.9mm, Pitch 1.27mm, IPC Low Density)
pins: 1 GND (power) "Ground", 2 ~{EN} (in) "Negative polarity enable (E\N\) input", 3 IN (power) "Input voltage", 4 IN (power) "Input voltage", 5 OUT (power) "Regulated output voltage", 6 OUT (power) "Regulated output voltage", 7 NC "No internal connection", 8 PG (hiz) "Open-drain power-good (PG) output."

## TPS76833QDG4
designator U?
Single Output Fast Transient Response LDO, 1 A, Fixed 3.3 V Output, 2.7 to 10 V Input, with Low IQ, 8-pin SOIC (D), -40 to 125 degC, Green (RoHS & no Sb/Br); Manufacturer: Texas Instruments; PartNumber: TPS76833QDG4; Accuracy(%): 2; Fixed Output Options(V): 3.3; Iout(Max)(A): 1; Iq(Typ)(mA): 0.08; Power Good: TRUE; SubFamily: Single Channel LDO; Vdo(Typ)(mV): 350; Vin(Max)(V): 10; Vin(Min)(V): 2.7; DatasheetVersion: SLVS211L; PackageVersion: 4040047-3/M; PackageReference: D8; PackageDescription: 8-Pin Plastic Small Outline, Body 4.9 x 3.9 mm, Pitch 1.27 mm; Supplier 1: Digi-Key; Supplier Part Number 1: TPS76833QDG4-ND; Supplier 2: Mouser; Supplier Part Number 2: 595-TPS76833QDG4; Eco-Plan: Green (RoHS & no Sb/Br); Vout Adj(Max)(V): 3.3; Vout Adj(Min)(V): 3.3; Mounting Technology: Surface Mount; Code_JEDEC: MS-012; ComponentLink1Description: Manufacturer URL; ComponentLink1URL: http://www.ti.com/; ComponentLink2Description: Datasheet; ComponentLink2URL: http://www.ti.com/general/docs/lit/getliterature.tsp?genericPartNumber=TPS76833&fileType=pdf; ComponentLink3Description: Package Specification; ComponentLink3URL: http://www.ti.com/litv/pdf/msoi002j
footprint TI-D8_N (SOIC, 8-Leads, Body 4.9x3.9mm, Pitch 1.27mm, IPC Medium Density)
footprint TI-D8_L (SOIC, 8-Leads, Body 4.9x3.9mm, Pitch 1.27mm, IPC High Density)
footprint TI-D8_M (SOIC, 8-Leads, Body 4.9x3.9mm, Pitch 1.27mm, IPC Low Density)
pins: 1 GND (power) "Ground", 2 ~{EN} (in) "Negative polarity enable (E\N\) input", 3 IN (power) "Input voltage", 4 IN (power) "Input voltage", 5 OUT (power) "Regulated output voltage", 6 OUT (power) "Regulated output voltage", 7 NC "No internal connection", 8 PG (hiz) "Open-drain power-good (PG) output."

## TPS76833QDR
designator U?
Single Output Fast Transient Response LDO, 1 A, Fixed 3.3 V Output, 2.7 to 10 V Input, with Low IQ, 8-pin SOIC (D), -40 to 125 degC, Green (RoHS & no Sb/Br); Manufacturer: Texas Instruments; PartNumber: TPS76833QDR; Accuracy(%): 2; Fixed Output Options(V): 3.3; Iout(Max)(A): 1; Iq(Typ)(mA): 0.08; Power Good: TRUE; SubFamily: Single Channel LDO; Vdo(Typ)(mV): 350; Vin(Max)(V): 10; Vin(Min)(V): 2.7; DatasheetVersion: SLVS211L; PackageVersion: 4040047-3/M; PackageReference: D8; PackageDescription: 8-Pin Plastic Small Outline, Body 4.9 x 3.9 mm, Pitch 1.27 mm; Supplier 1: Digi-Key; Supplier Part Number 1: TPS76833QDR-ND; Supplier 2: Mouser; Supplier Part Number 2: 595-TPS76833QDR; Eco-Plan: Green (RoHS & no Sb/Br); Vout Adj(Max)(V): 3.3; Vout Adj(Min)(V): 3.3; Mounting Technology: Surface Mount; Code_JEDEC: MS-012; ComponentLink1Description: Manufacturer URL; ComponentLink1URL: http://www.ti.com/; ComponentLink2Description: Datasheet; ComponentLink2URL: http://www.ti.com/general/docs/lit/getliterature.tsp?genericPartNumber=TPS76833&fileType=pdf; ComponentLink3Description: Package Specification; ComponentLink3URL: http://www.ti.com/litv/pdf/msoi002j
footprint TI-D8_N (SOIC, 8-Leads, Body 4.9x3.9mm, Pitch 1.27mm, IPC Medium Density)
footprint TI-D8_L (SOIC, 8-Leads, Body 4.9x3.9mm, Pitch 1.27mm, IPC High Density)
footprint TI-D8_M (SOIC, 8-Leads, Body 4.9x3.9mm, Pitch 1.27mm, IPC Low Density)
pins: 1 GND (power) "Ground", 2 ~{EN} (in) "Negative polarity enable (E\N\) input", 3 IN (power) "Input voltage", 4 IN (power) "Input voltage", 5 OUT (power) "Regulated output voltage", 6 OUT (power) "Regulated output voltage", 7 NC "No internal connection", 8 PG (hiz) "Open-drain power-good (PG) output."

## TPS76833QDRG4
designator U?
Single Output Fast Transient Response LDO, 1 A, Fixed 3.3 V Output, 2.7 to 10 V Input, with Low IQ, 8-pin SOIC (D), -40 to 125 degC, Green (RoHS & no Sb/Br); Manufacturer: Texas Instruments; PartNumber: TPS76833QDRG4; Accuracy(%): 2; Fixed Output Options(V): 3.3; Iout(Max)(A): 1; Iq(Typ)(mA): 0.08; Power Good: TRUE; SubFamily: Single Channel LDO; Vdo(Typ)(mV): 350; Vin(Max)(V): 10; Vin(Min)(V): 2.7; DatasheetVersion: SLVS211L; PackageVersion: 4040047-3/M; PackageReference: D8; PackageDescription: 8-Pin Plastic Small Outline, Body 4.9 x 3.9 mm, Pitch 1.27 mm; Supplier 1: Digi-Key; Supplier Part Number 1: TPS76833QDRG4-ND; Supplier 2: Mouser; Supplier Part Number 2: 595-TPS76833QDRG4; Eco-Plan: Green (RoHS & no Sb/Br); Vout Adj(Max)(V): 3.3; Vout Adj(Min)(V): 3.3; Mounting Technology: Surface Mount; Code_JEDEC: MS-012; ComponentLink1Description: Manufacturer URL; ComponentLink1URL: http://www.ti.com/; ComponentLink2Description: Datasheet; ComponentLink2URL: http://www.ti.com/general/docs/lit/getliterature.tsp?genericPartNumber=TPS76833&fileType=pdf; ComponentLink3Description: Package Specification; ComponentLink3URL: http://www.ti.com/litv/pdf/msoi002j
footprint TI-D8_N (SOIC, 8-Leads, Body 4.9x3.9mm, Pitch 1.27mm, IPC Medium Density)
footprint TI-D8_L (SOIC, 8-Leads, Body 4.9x3.9mm, Pitch 1.27mm, IPC High Density)
footprint TI-D8_M (SOIC, 8-Leads, Body 4.9x3.9mm, Pitch 1.27mm, IPC Low Density)
pins: 1 GND (power) "Ground", 2 ~{EN} (in) "Negative polarity enable (E\N\) input", 3 IN (power) "Input voltage", 4 IN (power) "Input voltage", 5 OUT (power) "Regulated output voltage", 6 OUT (power) "Regulated output voltage", 7 NC "No internal connection", 8 PG (hiz) "Open-drain power-good (PG) output."

## TPS76833QPWP
designator U?
Single Output Fast Transient Response LDO, 1 A, Fixed 3.3 V Output, 2.7 to 10 V Input, with Low IQ, 20-pin HTSSOP (PWP), -40 to 125 degC, Green (RoHS & no Sb/Br); Manufacturer: Texas Instruments; PartNumber: TPS76833QPWP; Accuracy(%): 2; Fixed Output Options(V): 3.3; Iout(Max)(A): 1; Iq(Typ)(mA): 0.08; Power Good: TRUE; SubFamily: Single Channel LDO; Vdo(Typ)(mV): 350; Vin(Max)(V): 10; Vin(Min)(V): 2.7; DatasheetVersion: SLVS211L; PackageVersion: 4073225-4/I; PackageReference: PWP20-2980X2000TP; PackageDescription: 20-Pin Plastic Small Outline, Body 4.4 x 6.5 mm, Pitch 0.65 mm; Supplier 1: Digi-Key; Supplier Part Number 1: 296-8092-5-ND; Supplier 2: Farnell; Supplier Part Number 2: 1575738; Supplier 3: Newark; Supplier Part Number 3: 77C1135; Supplier 4: Mouser; Supplier Part Number 4: 595-TPS76833QPWP; Eco-Plan: Green (RoHS & no Sb/Br); Vout Adj(Max)(V): 3.3; Vout Adj(Min)(V): 3.3; Mounting Technology: Surface Mount; Code_JEDEC: MO-153; ComponentLink1Description: Manufacturer URL; ComponentLink1URL: http://www.ti.com/; ComponentLink2Description: Datasheet; ComponentLink2URL: http://www.ti.com/general/docs/lit/getliterature.tsp?genericPartNumber=TPS76833&fileType=pdf; ComponentLink3Description: Package Specification; ComponentLink3URL: http://www.ti.com/litv/pdf/mhts001g
footprint TI-PWP20-2980X2000TP_N (SOP, 20-Leads, Body 6.5x4.4mm, Pitch 0.65mm, Thermal Pad 2.975x2 mm, IPC Medium Density)
footprint TI-PWP20-2980X2000TP_L (SOP, 20-Leads, Body 6.5x4.4mm, Pitch 0.65mm, Thermal Pad 2.975x2 mm, IPC High Density)
footprint TI-PWP20-2980X2000TP_M (SOP, 20-Leads, Body 6.5x4.4mm, Pitch 0.65mm, Thermal Pad 2.975x2 mm, IPC Low Density)
part A pins: 5 ~{EN} (in) "Enable input", 6 IN (power) "Input voltage", 7 IN (power) "Input voltage", 13 OUT (power) "Regulated output voltage", 14 OUT (power) "Regulated output voltage", 16 PG (hiz) "PG output"
part B pins: 1 GND/HSINK (power) "Ground/heatsink", 2 GND/HSINK (power) "Ground/heatsink", 3 GND (power) "Regulator ground", 9 GND/HSINK (power) "Ground/heatsink", 10 GND/HSINK (power) "Ground/heatsink", 11 GND/HSINK (power) "Ground/heatsink", 12 GND/HSINK (power) "Ground/heatsink", 19 GND/HSINK (power) "Ground/heatsink", 20 GND/HSINK (power) "Ground/heatsink", 21 EP "Exposed Thermal Pad"
part C pins: 4 NC "No connect", 8 NC "No connect", 15 NC "No connect", 17 NC "No connect", 18 NC "No connect"

## TPS76833QPWPG4
designator U?
Single Output Fast Transient Response LDO, 1 A, Fixed 3.3 V Output, 2.7 to 10 V Input, with Low IQ, 20-pin HTSSOP (PWP), -40 to 125 degC, Green (RoHS & no Sb/Br); Manufacturer: Texas Instruments; PartNumber: TPS76833QPWPG4; Accuracy(%): 2; Fixed Output Options(V): 3.3; Iout(Max)(A): 1; Iq(Typ)(mA): 0.08; Power Good: TRUE; SubFamily: Single Channel LDO; Vdo(Typ)(mV): 350; Vin(Max)(V): 10; Vin(Min)(V): 2.7; DatasheetVersion: SLVS211L; PackageVersion: 4073225-4/I; PackageReference: PWP20-2980X2000TP; PackageDescription: 20-Pin Plastic Small Outline, Body 4.4 x 6.5 mm, Pitch 0.65 mm; Supplier 1: Digi-Key; Supplier Part Number 1: TPS76833QPWPG4-ND; Supplier 2: Farnell; Supplier Part Number 2: 1234859; Supplier 3: Newark; Supplier Part Number 3: 13M3304; Supplier 4: Newark; Supplier Part Number 4: 58K6991; Supplier 5: Mouser; Supplier Part Number 5: 595-TPS76833QPWPG4; Eco-Plan: Green (RoHS & no Sb/Br); Vout Adj(Max)(V): 3.3; Vout Adj(Min)(V): 3.3; Mounting Technology: Surface Mount; Code_JEDEC: MO-153; ComponentLink1Description: Manufacturer URL; ComponentLink1URL: http://www.ti.com/; ComponentLink2Description: Datasheet; ComponentLink2URL: http://www.ti.com/general/docs/lit/getliterature.tsp?genericPartNumber=TPS76833&fileType=pdf; ComponentLink3Description: Package Specification; ComponentLink3URL: http://www.ti.com/litv/pdf/mhts001g
footprint TI-PWP20-2980X2000TP_N (SOP, 20-Leads, Body 6.5x4.4mm, Pitch 0.65mm, Thermal Pad 2.975x2 mm, IPC Medium Density)
footprint TI-PWP20-2980X2000TP_L (SOP, 20-Leads, Body 6.5x4.4mm, Pitch 0.65mm, Thermal Pad 2.975x2 mm, IPC High Density)
footprint TI-PWP20-2980X2000TP_M (SOP, 20-Leads, Body 6.5x4.4mm, Pitch 0.65mm, Thermal Pad 2.975x2 mm, IPC Low Density)
part A pins: 5 ~{EN} (in) "Enable input", 6 IN (power) "Input voltage", 7 IN (power) "Input voltage", 13 OUT (power) "Regulated output voltage", 14 OUT (power) "Regulated output voltage", 16 PG (hiz) "PG output"
part B pins: 1 GND/HSINK (power) "Ground/heatsink", 2 GND/HSINK (power) "Ground/heatsink", 3 GND (power) "Regulator ground", 9 GND/HSINK (power) "Ground/heatsink", 10 GND/HSINK (power) "Ground/heatsink", 11 GND/HSINK (power) "Ground/heatsink", 12 GND/HSINK (power) "Ground/heatsink", 19 GND/HSINK (power) "Ground/heatsink", 20 GND/HSINK (power) "Ground/heatsink", 21 EP "Exposed Thermal Pad"
part C pins: 4 NC "No connect", 8 NC "No connect", 15 NC "No connect", 17 NC "No connect", 18 NC "No connect"

## TPS76833QPWPR
designator U?
Single Output Fast Transient Response LDO, 1 A, Fixed 3.3 V Output, 2.7 to 10 V Input, with Low IQ, 20-pin HTSSOP (PWP), -40 to 125 degC, Green (RoHS & no Sb/Br); Manufacturer: Texas Instruments; PartNumber: TPS76833QPWPR; Accuracy(%): 2; Fixed Output Options(V): 3.3; Iout(Max)(A): 1; Iq(Typ)(mA): 0.08; Power Good: TRUE; SubFamily: Single Channel LDO; Vdo(Typ)(mV): 350; Vin(Max)(V): 10; Vin(Min)(V): 2.7; DatasheetVersion: SLVS211L; PackageVersion: 4073225-4/I; PackageReference: PWP20-2980X2000TP; PackageDescription: 20-Pin Plastic Small Outline, Body 4.4 x 6.5 mm, Pitch 0.65 mm; Supplier 1: Digi-Key; Supplier Part Number 1: TPS76833QPWPR-ND; Supplier 2: Newark; Supplier Part Number 2: 77C1136; Supplier 3: Mouser; Supplier Part Number 3: 595-TPS76833QPWPR; Eco-Plan: Green (RoHS & no Sb/Br); Vout Adj(Max)(V): 3.3; Vout Adj(Min)(V): 3.3; Mounting Technology: Surface Mount; Code_JEDEC: MO-153; ComponentLink1Description: Manufacturer URL; ComponentLink1URL: http://www.ti.com/; ComponentLink2Description: Datasheet; ComponentLink2URL: http://www.ti.com/general/docs/lit/getliterature.tsp?genericPartNumber=TPS76833&fileType=pdf; ComponentLink3Description: Package Specification; ComponentLink3URL: http://www.ti.com/litv/pdf/mhts001g
footprint TI-PWP20-2980X2000TP_N (SOP, 20-Leads, Body 6.5x4.4mm, Pitch 0.65mm, Thermal Pad 2.975x2 mm, IPC Medium Density)
footprint TI-PWP20-2980X2000TP_L (SOP, 20-Leads, Body 6.5x4.4mm, Pitch 0.65mm, Thermal Pad 2.975x2 mm, IPC High Density)
footprint TI-PWP20-2980X2000TP_M (SOP, 20-Leads, Body 6.5x4.4mm, Pitch 0.65mm, Thermal Pad 2.975x2 mm, IPC Low Density)
part A pins: 5 ~{EN} (in) "Enable input", 6 IN (power) "Input voltage", 7 IN (power) "Input voltage", 13 OUT (power) "Regulated output voltage", 14 OUT (power) "Regulated output voltage", 16 PG (hiz) "PG output"
part B pins: 1 GND/HSINK (power) "Ground/heatsink", 2 GND/HSINK (power) "Ground/heatsink", 3 GND (power) "Regulator ground", 9 GND/HSINK (power) "Ground/heatsink", 10 GND/HSINK (power) "Ground/heatsink", 11 GND/HSINK (power) "Ground/heatsink", 12 GND/HSINK (power) "Ground/heatsink", 19 GND/HSINK (power) "Ground/heatsink", 20 GND/HSINK (power) "Ground/heatsink", 21 EP "Exposed Thermal Pad"
part C pins: 4 NC "No connect", 8 NC "No connect", 15 NC "No connect", 17 NC "No connect", 18 NC "No connect"

## TPS76833QPWPREP
designator U?
Single Output Fast Transient Response LDO, 1 A, Fixed 3.3 V Output, 2.7 to 10 V Input, 20-pin HTSSOP (PWP), -40 to 125 degC, Green (RoHS & no Sb/Br); Manufacturer: Texas Instruments; PartNumber: TPS76833QPWPREP; Accuracy(%): 2; Fixed Output Options(V): 3.3; Iout(Max)(A): 1; Iq(Typ)(mA): 0.08; Power Good: TRUE; SubFamily: Single Channel LDO; Vdo(Typ)(mV): 350; Vin(Max)(V): 10; Vin(Min)(V): 2.7; DatasheetVersion: SGLS011B; PackageVersion: 4073225-4/I; PackageReference: PWP20-2980X2000TP; PackageDescription: 20-Pin Plastic Small Outline, Body 4.4 x 6.5 mm, Pitch 0.65 mm; Supplier 1: Digi-Key; Supplier Part Number 1: 296-21901-2-ND; Supplier 2: Digi-Key; Supplier Part Number 2: 296-21901-1-ND; Supplier 3: Digi-Key; Supplier Part Number 3: 296-21901-6-ND; Supplier 4: Newark; Supplier Part Number 4: 46M1185; Supplier 5: Mouser; Supplier Part Number 5: 595-TPS76833QPWPREP; Eco-Plan: Green (RoHS & no Sb/Br); Vout Adj(Max)(V): 3.3; Vout Adj(Min)(V): 3.3; Mounting Technology: Surface Mount; Code_JEDEC: MO-153; ComponentLink1Description: Manufacturer URL; ComponentLink1URL: http://www.ti.com/; ComponentLink2Description: Datasheet; ComponentLink2URL: http://www.ti.com/general/docs/lit/getliterature.tsp?genericPartNumber=TPS76833-EP&fileType=pdf; ComponentLink3Description: Package Specification; ComponentLink3URL: http://www.ti.com/litv/pdf/mhts001g
footprint TI-PWP20-2980X2000TP_N (SOP, 20-Leads, Body 6.5x4.4mm, Pitch 0.65mm, Thermal Pad 2.975x2 mm, IPC Medium Density)
footprint TI-PWP20-2980X2000TP_L (SOP, 20-Leads, Body 6.5x4.4mm, Pitch 0.65mm, Thermal Pad 2.975x2 mm, IPC High Density)
footprint TI-PWP20-2980X2000TP_M (SOP, 20-Leads, Body 6.5x4.4mm, Pitch 0.65mm, Thermal Pad 2.975x2 mm, IPC Low Density)
part A pins: 5 ~{EN} (in) "Enable input", 6 IN (power) "Input voltage", 7 IN (power) "Input voltage", 13 OUT (power) "Regulated output voltage", 14 OUT (power) "Regulated output voltage", 16 PG (hiz) "PG output"
part B pins: 1 GND/HSINK (power) "Ground/heatsink", 2 GND/HSINK (power) "Ground/heatsink", 3 GND (power) "Regulator ground", 9 GND/HSINK (power) "Ground/heatsink", 10 GND/HSINK (power) "Ground/heatsink", 11 GND/HSINK (power) "Ground/heatsink", 12 GND/HSINK (power) "Ground/heatsink", 19 GND/HSINK (power) "Ground/heatsink", 20 GND/HSINK (power) "Ground/heatsink", 21 EP "Exposed Thermal Pad"
part C pins: 4 NC "No connect", 8 NC "No connect", 15 NC "No connect", 17 NC "No connect", 18 NC "No connect"

## TPS76833QPWPRG4
designator U?
Single Output Fast Transient Response LDO, 1 A, Fixed 3.3 V Output, 2.7 to 10 V Input, with Low IQ, 20-pin HTSSOP (PWP), -40 to 125 degC, Green (RoHS & no Sb/Br); Manufacturer: Texas Instruments; PartNumber: TPS76833QPWPRG4; Accuracy(%): 2; Fixed Output Options(V): 3.3; Iout(Max)(A): 1; Iq(Typ)(mA): 0.08; Power Good: TRUE; SubFamily: Single Channel LDO; Vdo(Typ)(mV): 350; Vin(Max)(V): 10; Vin(Min)(V): 2.7; DatasheetVersion: SLVS211L; PackageVersion: 4073225-4/I; PackageReference: PWP20-2980X2000TP; PackageDescription: 20-Pin Plastic Small Outline, Body 4.4 x 6.5 mm, Pitch 0.65 mm; Supplier 1: Digi-Key; Supplier Part Number 1: TPS76833QPWPRG4-ND; Supplier 2: Newark; Supplier Part Number 2: 33K7788; Supplier 3: Mouser; Supplier Part Number 3: 595-TPS76833QPWPRG4; Eco-Plan: Green (RoHS & no Sb/Br); Vout Adj(Max)(V): 3.3; Vout Adj(Min)(V): 3.3; Mounting Technology: Surface Mount; Code_JEDEC: MO-153; ComponentLink1Description: Manufacturer URL; ComponentLink1URL: http://www.ti.com/; ComponentLink2Description: Datasheet; ComponentLink2URL: http://www.ti.com/general/docs/lit/getliterature.tsp?genericPartNumber=TPS76833&fileType=pdf; ComponentLink3Description: Package Specification; ComponentLink3URL: http://www.ti.com/litv/pdf/mhts001g
footprint TI-PWP20-2980X2000TP_N (SOP, 20-Leads, Body 6.5x4.4mm, Pitch 0.65mm, Thermal Pad 2.975x2 mm, IPC Medium Density)
footprint TI-PWP20-2980X2000TP_L (SOP, 20-Leads, Body 6.5x4.4mm, Pitch 0.65mm, Thermal Pad 2.975x2 mm, IPC High Density)
footprint TI-PWP20-2980X2000TP_M (SOP, 20-Leads, Body 6.5x4.4mm, Pitch 0.65mm, Thermal Pad 2.975x2 mm, IPC Low Density)
part A pins: 5 ~{EN} (in) "Enable input", 6 IN (power) "Input voltage", 7 IN (power) "Input voltage", 13 OUT (power) "Regulated output voltage", 14 OUT (power) "Regulated output voltage", 16 PG (hiz) "PG output"
part B pins: 1 GND/HSINK (power) "Ground/heatsink", 2 GND/HSINK (power) "Ground/heatsink", 3 GND (power) "Regulator ground", 9 GND/HSINK (power) "Ground/heatsink", 10 GND/HSINK (power) "Ground/heatsink", 11 GND/HSINK (power) "Ground/heatsink", 12 GND/HSINK (power) "Ground/heatsink", 19 GND/HSINK (power) "Ground/heatsink", 20 GND/HSINK (power) "Ground/heatsink", 21 EP "Exposed Thermal Pad"
part C pins: 4 NC "No connect", 8 NC "No connect", 15 NC "No connect", 17 NC "No connect", 18 NC "No connect"